# Altium schematic symbol library AD780.Schlib: 1 symbol
Pins are listed as number, name and electrical type; pins without a type are passive.

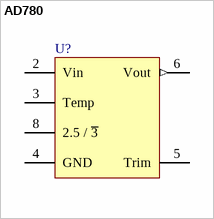
[diagram p0: symbol AD780]

## AD780
designator U?
Precision voltage reference; Package Information: Latest Revision: ver11.0, Feb-2003; Configures: APEX II, APEX 20K, Mercury, ACEX 1K & FLEX Devices; Code - JEDEC: MS-026-ABA; Published: 17-Sep-2003; Datasheet: Latest Revision: ver1.1, Oct-2003; Package Reference: TQFP32; Publisher: Altium Limited
footprint SO-8
pins: 2 Vin (power), 3 Temp, 4 GND (power), 5 Trim, 6 Vout (out), 8 2.5 / ~{3}